# Altium footprint library semtech.PcbLib: 62 footprints (part 4 of 4)
Each footprint in its own frame and in the unit in brackets; x right, y up, seen from the top. Pads: shape width x height; smd on the part's side, far side on the other; paste and mask are expansions set on the pad; w line width, h text height; cw(c..) or ccw(c..) is an arc to the next point about the centre after c.
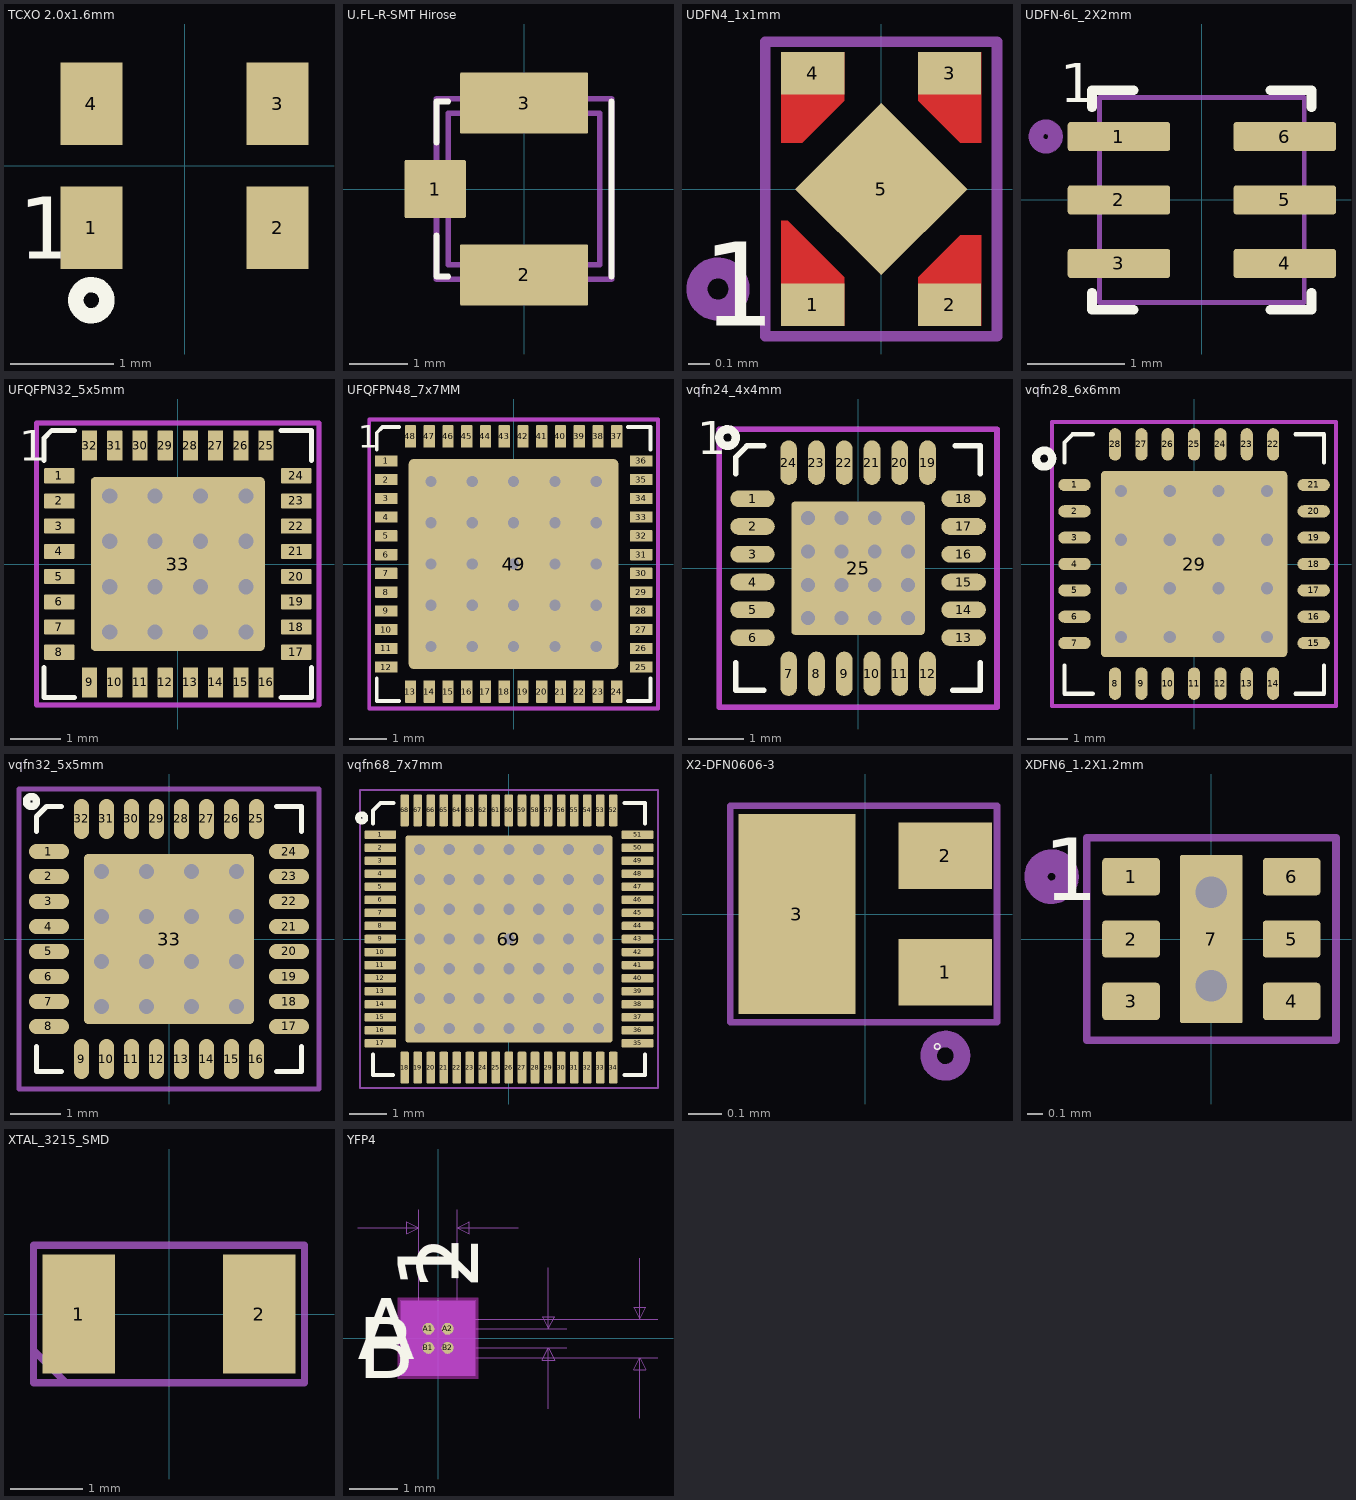
[diagram p3: the footprints below, top view; thin cyan lines are the x and y axes]

## TCXO 2.0x1.6mm [mm] "SMD 2.0x1.6mm for TCXO or VCTCXO"
height 1
pads (4):
  rect 0.6x0.8 smd mask+0.05: 1(-0.9,-0.6) 2(0.9,-0.6) 3(0.9,0.6) 4(-0.9,0.6)
Top Overlay:
  circle w0.15: c-0.9,-1.3 r0.15
  text "1" at -1.6,-0.9 h0.6
3D body: height 1, standoff 0, extent -1,-0.8 1,0.8

## U.FL-R-SMT Hirose [mm] "Hirose U.FL RF receptacle - U.FL-R-SMT"
height 1.2
pads (3):
  rrect5% 1.05x1 smd mask+0.05: 1(-1.525,0)
  rrect5% 2.2x1.05 smd mask+0.05: 2(0,-1.475) 3(0,1.475)
Top Overlay:
  lines w0.1: -1.5,-0.8 -1.5,-1.5 -1.3,-1.5 ; -1.5,0.8 -1.5,1.5 -1.3,1.5 ; 1.5,-1.5 1.5,1.5
Mechanical 13:
  lines w0.1: -1.5,-1.55 1.5,-1.55 1.5,1.55 -1.5,1.55 -1.5,-1.55
Mechanical 15:
  lines w0.1: -1.3,-1.3 1.3,-1.3 1.3,1.3 -1.3,1.3 -1.3,-1.3
3D body: height 1.3, standoff 0.05, extent -1.5,-1.5 1.5,1.5

## UDFN4_1x1mm [mm] "UDFN4_1x1mm"
height 0.6
pads (5):
  rect 0.3x0.2 smd paste-0.025 mask+0.025: 1(-0.325,-0.55) 2(0.325,-0.55) 3(0.325,0.55) 4(-0.325,0.55)
  rect 0.58x0.58 smd rot 45 paste-0.025 mask+0.025: 5(0,0)
Top Layer:
  region: 0.175,0.65 0.175,0.42 0.375,0.22 0.475,0.22 0.475,0.65
  region: -0.175,-0.65 -0.175,-0.42 -0.445,-0.15 -0.475,-0.15 -0.475,-0.65
  region: -0.175,0.65 -0.175,0.42 -0.375,0.22 -0.475,0.22 -0.475,0.65
  region: 0.175,-0.65 0.175,-0.42 0.375,-0.22 0.475,-0.22 0.475,-0.65
Top Overlay:
  text "1" at -0.85,-0.65 h0.4
Top Paste:
  region: -0.45,0.625 -0.45,0.25 -0.375,0.25 -0.2,0.425 -0.2,0.625
  region: 0.45,0.625 0.45,0.25 0.375,0.25 0.2,0.425 0.2,0.625
  region: 0.2,-0.625 0.2,-0.425 0.375,-0.25 0.45,-0.25 0.45,-0.625
  region: -0.2,-0.625 -0.2,-0.425 -0.425,-0.2 -0.45,-0.2 -0.45,-0.625
Top Solder:
  region: -0.5,0.675 -0.5,0.2 -0.375,0.2 -0.15,0.425 -0.15,0.675
  region: 0.5,-0.675 0.5,-0.2 0.375,-0.2 0.15,-0.425 0.15,-0.675
  region: -0.5,-0.675 -0.5,-0.125 -0.45,-0.125 -0.15,-0.425 -0.15,-0.675
  region: 0.5,0.675 0.5,0.2 0.375,0.2 0.15,0.425 0.15,0.675
Mechanical 15:
  circle w0.1: c-0.775,-0.475 r0.1
  lines w0.05: -0.55,-0.7 0.55,-0.7 0.55,0.7 -0.55,0.7 -0.55,-0.7
3D body: height 0.6, standoff 0, extent -0.5,-0.5 0.5,0.5

## UDFN-6L_2X2mm [mm] "6 Leads, Body 2x2mm, pitch 0.65mm, UDFN-6L"
height 0.8
pads (6):
  rrect20% 1.05x0.3 smd paste+0 mask+0.05: 1(-0.85,0.65) 2(-0.85,0) 3(-0.85,-0.65) 4(0.85,-0.65) 5(0.85,0) 6(0.85,0.65)
Top Overlay:
  lines w0.1: -1.125,-0.95 -1.125,-1.125 -0.7,-1.125 ; -1.125,0.95 -1.125,1.125 -0.7,1.125 ; 0.7,-1.125 1.125,-1.125 1.125,-0.95 ; 0.7,1.125 1.125,1.125 1.125,0.95
  text "1" at -1.45,1 h0.4
Mechanical 15:
  circle w0.15: c-1.6,0.65 r0.1
  lines w0.05: -1.05,-1.05 -1.05,1.05 1.05,1.05 1.05,-1.05 -1.05,-1.05
3D body: height 0.55, standoff 0.05, extent -1,-1 1,1

## UFQFPN32_5x5mm [mm] "UFQFPN32 Leads, Body 5.0x5.0mm, Pitch 0.50mm"
height 0.6
pads (33):
  rrect10% 0.6x0.3 smd mask+0.05: 1(-2.35,1.75) 2(-2.35,1.25) 3(-2.35,0.75) 4(-2.35,0.25) 5(-2.35,-0.25) 6(-2.35,-0.75) 7(-2.35,-1.25) 8(-2.35,-1.75) 17(2.35,-1.75) 18(2.35,-1.25) 19(2.35,-0.75) 20(2.35,-0.25) 21(2.35,0.25) 22(2.35,0.75) 23(2.35,1.25) 24(2.35,1.75)
  rrect10% 0.3x0.6 smd mask+0.05: 9(-1.75,-2.35) 10(-1.25,-2.35) 11(-0.75,-2.35) 12(-0.25,-2.35) 13(0.25,-2.35) 14(0.75,-2.35) 15(1.25,-2.35) 16(1.75,-2.35) 25(1.75,2.35) 26(1.25,2.35) 27(0.75,2.35) 28(0.25,2.35) 29(-0.25,2.35) 30(-0.75,2.35) 31(-1.25,2.35) 32(-1.75,2.35)
  rrect5% 3.45x3.45 smd paste-5 mask+0.05: 33(0,0)
via 1.35,1.35 diameter 0.6 hole 0.3
via -1.35,1.35 diameter 0.6 hole 0.3
via -0.45,1.35 diameter 0.6 hole 0.3
via 0.45,1.35 diameter 0.6 hole 0.3
via 1.35,0.45 diameter 0.6 hole 0.3
via -1.35,0.45 diameter 0.6 hole 0.3
via -0.45,0.45 diameter 0.6 hole 0.3
via 0.45,0.45 diameter 0.6 hole 0.3
via 1.35,-0.45 diameter 0.6 hole 0.3
via -1.35,-0.45 diameter 0.6 hole 0.3
via -0.45,-0.45 diameter 0.6 hole 0.3
via 0.45,-0.45 diameter 0.6 hole 0.3
via 0.45,-1.35 diameter 0.6 hole 0.3
via -0.45,-1.35 diameter 0.6 hole 0.3
via -1.35,-1.35 diameter 0.6 hole 0.3
via 1.35,-1.35 diameter 0.6 hole 0.3
Top Overlay:
  lines w0.1: -2.65,-2.05 -2.65,-2.65 -2.05,-2.65 ; -2.65,2.05 -2.65,2.5 -2.5,2.65 -2.05,2.65 ; 2.05,-2.65 2.65,-2.65 2.65,-2.05 ; 2.05,2.65 2.65,2.65 2.65,2.05
  text "1" at -3.15,2.05 h0.6
Top Paste:
  region: -0.1,-0.1 -0.1,-1.6 -1.6,-1.6 -1.6,-0.1
  region: 1.6,-0.1 1.6,-1.6 0.1,-1.6 0.1,-0.1
  region: 1.6,1.6 1.6,0.1 0.1,0.1 0.1,1.6
  region: -0.1,1.6 -0.1,0.1 -1.6,0.1 -1.6,1.6
Mechanical 15 keep-out:
  lines w0.1: -2.8,-2.8 2.8,-2.8 2.8,2.8 -2.8,2.8 -2.8,-2.8
3D body: height 1, standoff 0.05, extent -2.5,-2.5 2.5,2.5

## UFQFPN48_7x7MM [mm] "UFQFPN48 Leads, Body 7.0x7.0mm, Pitch 0.50mm"
height 1
pads (49):
  rrect10% 0.6x0.3 smd mask+0.05: 1(-3.4,2.75) 2(-3.4,2.25) 3(-3.4,1.75) 4(-3.4,1.25) 5(-3.4,0.75) 6(-3.4,0.25) 7(-3.4,-0.25) 8(-3.4,-0.75) 9(-3.4,-1.25) 10(-3.4,-1.75) 11(-3.4,-2.25) 12(-3.4,-2.75) 25(3.4,-2.75) 26(3.4,-2.25) 27(3.4,-1.75) 28(3.4,-1.25) 29(3.4,-0.75) 30(3.4,-0.25) 31(3.4,0.25) 32(3.4,0.75) 33(3.4,1.25) 34(3.4,1.75) 35(3.4,2.25) 36(3.4,2.75)
  rrect10% 0.3x0.6 smd mask+0.05: 13(-2.75,-3.4) 14(-2.25,-3.4) 15(-1.75,-3.4) 16(-1.25,-3.4) 17(-0.75,-3.4) 18(-0.25,-3.4) 19(0.25,-3.4) 20(0.75,-3.4) 21(1.25,-3.4) 22(1.75,-3.4) 23(2.25,-3.4) 24(2.75,-3.4) 37(2.75,3.4) 38(2.25,3.4) 39(1.75,3.4) 40(1.25,3.4) 41(0.75,3.4) 42(0.25,3.4) 43(-0.25,3.4) 44(-0.75,3.4) 45(-1.25,3.4) 46(-1.75,3.4) 47(-2.25,3.4) 48(-2.75,3.4)
  rrect5% 5.6x5.6 smd paste-5.2 mask+0.05: 49(0,0)
via 0,0 diameter 0.6 hole 0.3
via 0,-1.1 diameter 0.6 hole 0.3
via -2.2,2.2 diameter 0.6 hole 0.3
via -2.2,-2.2 diameter 0.6 hole 0.3
via -2.2,1.1 diameter 0.6 hole 0.3
via -2.2,0 diameter 0.6 hole 0.3
via -2.2,-1.1 diameter 0.6 hole 0.3
via -1.1,-2.2 diameter 0.6 hole 0.3
via -1.1,-1.1 diameter 0.6 hole 0.3
via -1.1,0 diameter 0.6 hole 0.3
via -1.1,1.1 diameter 0.6 hole 0.3
via -1.1,2.2 diameter 0.6 hole 0.3
via 0,-2.2 diameter 0.6 hole 0.3
via 0,1.1 diameter 0.6 hole 0.3
via 0,2.2 diameter 0.6 hole 0.3
via 1.1,-2.2 diameter 0.6 hole 0.3
via 1.1,-1.1 diameter 0.6 hole 0.3
via 1.1,0 diameter 0.6 hole 0.3
via 1.1,1.1 diameter 0.6 hole 0.3
via 1.1,2.2 diameter 0.6 hole 0.3
via 2.2,2.2 diameter 0.6 hole 0.3
via 2.2,1.1 diameter 0.6 hole 0.3
via 2.2,0 diameter 0.6 hole 0.3
via 2.2,-1.1 diameter 0.6 hole 0.3
via 2.2,-2.2 diameter 0.6 hole 0.3
Top Overlay:
  lines w0.1: -3.65,-3.05 -3.65,-3.65 -3.05,-3.65 ; -3.65,3.05 -3.65,3.5 -3.5,3.65 -3.05,3.65 ; 3.05,-3.65 3.65,-3.65 3.65,-3.05 ; 3.05,3.65 3.65,3.65 3.65,3.05
  text "1" at -4.15,3.1 h0.6
Top Paste:
  region: 0.2,-0.2 2,-0.2 2,-2 0.2,-2
  region: -0.2,-0.2 -0.2,-2 -2,-2 -2,-0.2
  region: -0.2,0.2 -0.2,2 -2,2 -2,0.2
  region: 0.2,0.2 2,0.2 2,2 0.2,2
Mechanical 15 keep-out:
  lines w0.1: -3.85,-3.85 -3.85,3.85 3.85,3.85 3.85,-3.85 -3.85,-3.85
3D body: height 1, standoff 0.05, extent -3.5,-3.5 3.5,3.5

## vqfn24_4x4mm [mm] "24 Leads, Body 4.0x4.0mm, Pitch 0.50mm, VQFN24"
height 1
pads (25):
  oval 0.8x0.3 smd mask+0.05: 1(-1.9,1.25) 2(-1.9,0.75) 3(-1.9,0.25) 4(-1.9,-0.25) 5(-1.9,-0.75) 6(-1.9,-1.25) 13(1.9,-1.25) 14(1.9,-0.75) 15(1.9,-0.25) 16(1.9,0.25) 17(1.9,0.75) 18(1.9,1.25)
  oval 0.3x0.8 smd mask+0.05: 7(-1.25,-1.9) 8(-0.75,-1.9) 9(-0.25,-1.9) 10(0.25,-1.9) 11(0.75,-1.9) 12(1.25,-1.9) 19(1.25,1.9) 20(0.75,1.9) 21(0.25,1.9) 22(-0.25,1.9) 23(-0.75,1.9) 24(-1.25,1.9)
  rrect5% 2.4x2.4 smd paste-2.5 mask+0.05: 25(0,0)
via -0.3,0.3 diameter 0.5 hole 0.25
via -0.9,-0.9 diameter 0.5 hole 0.25
via -0.9,0.3 diameter 0.5 hole 0.25
via -0.9,-0.3 diameter 0.5 hole 0.25
via -0.9,0.9 diameter 0.5 hole 0.25
via -0.3,-0.3 diameter 0.5 hole 0.25
via -0.3,0.9 diameter 0.5 hole 0.25
via -0.3,-0.9 diameter 0.5 hole 0.25
via 0.3,0.9 diameter 0.5 hole 0.25
via 0.3,0.3 diameter 0.5 hole 0.25
via 0.9,0.9 diameter 0.5 hole 0.25
via 0.9,0.3 diameter 0.5 hole 0.25
via 0.9,-0.3 diameter 0.5 hole 0.25
via 0.9,-0.9 diameter 0.5 hole 0.25
via 0.3,-0.9 diameter 0.5 hole 0.25
via 0.3,-0.3 diameter 0.5 hole 0.25
Top Overlay:
  circle w0.15: c-2.35,2.35 r0.15
  lines w0.1: -2.2,-1.7 -2.2,-2.2 -1.7,-2.2 ; -2.2,1.7 -2.2,2 -2,2.2 -1.7,2.2 ; 1.7,-2.2 2.2,-2.2 2.2,-1.7 ; 1.75,2.2 2.2,2.2 2.2,1.7
  text "1" at -2.9,2.05 h0.6
Top Paste:
  region: -1.15,-1.15 -0.05,-1.15 -0.05,-0.05 -1.15,-0.05
  region: -1.15,0.05 -0.05,0.05 -0.05,1.15 -1.15,1.15
  region: 0.05,0.05 1.15,0.05 1.15,1.15 0.05,1.15
  region: 0.05,-1.15 1.15,-1.15 1.15,-0.05 0.05,-0.05
Mechanical 15 keep-out:
  lines w0.1: -2.5,-2.5 2.5,-2.5 2.5,2.5 -2.5,2.5 -2.5,-2.5
3D body: height 1, standoff 0.05, extent -2,-2 2,2

## vqfn28_6x6mm [mm] "28 Leads, Body 6.0x6.0mm, Pitch 0.65mm, VQFN28"
height 1
pads (29):
  oval 0.8x0.3 smd mask+0.05: 1(-2.95,1.95) 2(-2.95,1.3) 3(-2.95,0.65) 4(-2.95,0) 5(-2.95,-0.65) 6(-2.95,-1.3) 7(-2.95,-1.95) 15(2.95,-1.95) 16(2.95,-1.3) 17(2.95,-0.65) 18(2.95,0) 19(2.95,0.65) 20(2.95,1.3) 21(2.95,1.95)
  oval 0.3x0.8 smd mask+0.05: 8(-1.95,-2.95) 9(-1.3,-2.95) 10(-0.65,-2.95) 11(0,-2.95) 12(0.65,-2.95) 13(1.3,-2.95) 14(1.95,-2.95) 22(1.95,2.95) 23(1.3,2.95) 24(0.65,2.95) 25(0,2.95) 26(-0.65,2.95) 27(-1.3,2.95) 28(-1.95,2.95)
  rrect5% 4.6x4.6 smd paste-3.3 mask+0.05: 29(0,0)
via 1.8,0.6 diameter 0.6 hole 0.3
via 1.8,1.8 diameter 0.6 hole 0.3
via 0.6,1.8 diameter 0.6 hole 0.3
via 0.6,0.6 diameter 0.6 hole 0.3
via -0.6,-0.6 diameter 0.6 hole 0.3
via -0.6,0.6 diameter 0.6 hole 0.3
via -0.6,1.8 diameter 0.6 hole 0.3
via -1.8,-1.8 diameter 0.6 hole 0.3
via -0.6,-1.8 diameter 0.6 hole 0.3
via 1.8,-1.8 diameter 0.6 hole 0.3
via 0.6,-0.6 diameter 0.6 hole 0.3
via -1.8,0.6 diameter 0.6 hole 0.3
via -1.8,-0.6 diameter 0.6 hole 0.3
via -1.8,1.8 diameter 0.6 hole 0.3
via 1.8,-0.6 diameter 0.6 hole 0.3
via 0.6,-1.8 diameter 0.6 hole 0.3
Top Overlay:
  circle w0.2: c-3.7,2.6 r0.2
  lines w0.1: -3.2,-2.5 -3.2,-3.2 -2.5,-3.2 ; -3.2,2.5 -3.2,3 -3,3.2 -2.5,3.2 ; 2.5,-3.2 3.2,-3.2 3.2,-2.5 ; 2.5,3.2 3.2,3.2 3.2,2.5
Top Paste:
  region: -1.75,-0.75 -1.75,-1.75 -0.75,-1.75 -0.75,-0.75
  region: -0.55,-0.75 -0.55,-1.75 0.45,-1.75 0.45,-0.75
  region: 0.75,-0.75 0.75,-1.75 1.75,-1.75 1.75,-0.75
  region: -1.75,0.5 -1.75,-0.5 -0.75,-0.5 -0.75,0.5
  region: -0.5,0.5 -0.5,-0.5 0.5,-0.5 0.5,0.5
  region: 0.75,0.5 0.75,-0.5 1.75,-0.5 1.75,0.5
  region: -1.75,1.75 -1.75,0.75 -0.75,0.75 -0.75,1.75
  region: -0.5,1.75 -0.5,0.75 0.5,0.75 0.5,1.75
  region: 0.75,1.75 0.75,0.75 1.75,0.75 1.75,1.75
Mechanical 15 keep-out:
  lines w0.1: -3.5,-3.5 3.5,-3.5 3.5,3.5 -3.5,3.5 -3.5,-3.5
3D body: height 1, standoff 0.05, extent -3,-3 3,3

## vqfn32_5x5mm [mm] "32 Leads, Body 5.0x5.0mm, Pitch 0.50mm, VQFN32"
height 1
pads (33):
  oval 0.8x0.3 smd mask+0.05: 1(-2.4,1.75) 2(-2.4,1.25) 3(-2.4,0.75) 4(-2.4,0.25) 5(-2.4,-0.25) 6(-2.4,-0.75) 7(-2.4,-1.25) 8(-2.4,-1.75) 17(2.4,-1.75) 18(2.4,-1.25) 19(2.4,-0.75) 20(2.4,-0.25) 21(2.4,0.25) 22(2.4,0.75) 23(2.4,1.25) 24(2.4,1.75)
  oval 0.3x0.8 smd mask+0.05: 9(-1.75,-2.4) 10(-1.25,-2.4) 11(-0.75,-2.4) 12(-0.25,-2.4) 13(0.25,-2.4) 14(0.75,-2.4) 15(1.25,-2.4) 16(1.75,-2.4) 25(1.75,2.4) 26(1.25,2.4) 27(0.75,2.4) 28(0.25,2.4) 29(-0.25,2.4) 30(-0.75,2.4) 31(-1.25,2.4) 32(-1.75,2.4)
  rrect5% 3.4x3.4 smd paste-3.2 mask+0.05: 33(0,0)
via -0.45,-1.35 diameter 0.6 hole 0.3
via 0.45,-1.35 diameter 0.6 hole 0.3
via -1.35,-1.35 diameter 0.6 hole 0.3
via 1.35,-1.35 diameter 0.6 hole 0.3
via 1.35,-0.45 diameter 0.6 hole 0.3
via -1.35,-0.45 diameter 0.6 hole 0.3
via 0.45,-0.45 diameter 0.6 hole 0.3
via -0.45,-0.45 diameter 0.6 hole 0.3
via 1.35,0.45 diameter 0.6 hole 0.3
via -1.35,0.45 diameter 0.6 hole 0.3
via 0.45,0.45 diameter 0.6 hole 0.3
via -0.45,0.45 diameter 0.6 hole 0.3
via 1.35,1.35 diameter 0.6 hole 0.3
via -1.35,1.35 diameter 0.6 hole 0.3
via 0.45,1.35 diameter 0.6 hole 0.3
via -0.45,1.35 diameter 0.6 hole 0.3
Top Overlay:
  circle w0.15: c-2.75,2.75 r0.1
  lines w0.1: -2.65,-2.15 -2.65,-2.65 -2.15,-2.65 ; -2.65,2.15 -2.65,2.45 -2.45,2.65 -2.15,2.65 ; 2.15,-2.65 2.65,-2.65 2.65,-2.15 ; 2.15,2.65 2.65,2.65 2.65,2.15
Top Paste:
  region: 0.1,1.55 1.55,1.55 1.55,0.1 0.1,0.1
  region: 0.1,-0.1 1.55,-0.1 1.55,-1.55 0.1,-1.55
  region: -0.1,-0.1 -0.1,-1.55 -1.55,-1.55 -1.55,-0.1
  region: -1.55,1.55 -1.55,0.1 -0.1,0.1 -0.1,1.55
Mechanical 15:
  lines w0.1: -3,-3 3,-3 3,3 -3,3 -3,-3
3D body: height 1, standoff 0.05, extent -2.5,-2.5 2.5,2.5

## vqfn68_7x7mm [mm] "VQFN68 Leads, Body 7.0x7.0mm, Pitch 0.35mm"
height 0.9
pads (69):
  rrect25% 0.85x0.23 smd paste+0 mask+0.025: 1(-3.45,2.8) 2(-3.45,2.45) 3(-3.45,2.1) 4(-3.45,1.75) 5(-3.45,1.4) 6(-3.45,1.05) 7(-3.45,0.7) 8(-3.45,0.35) 9(-3.45,0) 10(-3.45,-0.35) 11(-3.45,-0.7) 12(-3.45,-1.05) 13(-3.45,-1.4) 14(-3.45,-1.75) 15(-3.45,-2.1) 16(-3.45,-2.45) 17(-3.45,-2.8) 35(3.45,-2.8) 36(3.45,-2.45) 37(3.45,-2.1) 38(3.45,-1.75) 39(3.45,-1.4) 40(3.45,-1.05) 41(3.45,-0.7) 42(3.45,-0.35) 43(3.45,0) 44(3.45,0.35) 45(3.45,0.7) 46(3.45,1.05) 47(3.45,1.4) 48(3.45,1.75) 49(3.45,2.1) 50(3.45,2.45) 51(3.45,2.8)
  rrect25% 0.23x0.85 smd paste+0 mask+0.025: 18(-2.8,-3.45) 19(-2.45,-3.45) 20(-2.1,-3.45) 21(-1.75,-3.45) 22(-1.4,-3.45) 23(-1.05,-3.45) 24(-0.7,-3.45) 25(-0.35,-3.45) 26(0,-3.45) 27(0.35,-3.45) 28(0.7,-3.45) 29(1.05,-3.45) 30(1.4,-3.45) 31(1.75,-3.45) 32(2.1,-3.45) 33(2.45,-3.45) 34(2.8,-3.45) 52(2.8,3.45) 53(2.45,3.45) 54(2.1,3.45) 55(1.75,3.45) 56(1.4,3.45) 57(1.05,3.45) 58(0.7,3.45) 59(0.35,3.45) 60(0,3.45) 61(-0.35,3.45) 62(-0.7,3.45) 63(-1.05,3.45) 64(-1.4,3.45) 65(-1.75,3.45) 66(-2.1,3.45) 67(-2.45,3.45) 68(-2.8,3.45)
  rrect2% 5.55x5.55 smd paste-6.6 mask+0.025: 69(0,0)
via 0,0 diameter 0.6 hole 0.3
via -0.8,0 diameter 0.6 hole 0.3
via -1.6,0 diameter 0.6 hole 0.3
via -2.4,0 diameter 0.6 hole 0.3
via 0.8,0 diameter 0.6 hole 0.3
via 1.6,0 diameter 0.6 hole 0.3
via 2.4,0 diameter 0.6 hole 0.3
via 2.4,-0.8 diameter 0.6 hole 0.3
via 1.6,-0.8 diameter 0.6 hole 0.3
via 0.8,-0.8 diameter 0.6 hole 0.3
via -2.4,-0.8 diameter 0.6 hole 0.3
via -1.6,-0.8 diameter 0.6 hole 0.3
via -0.8,-0.8 diameter 0.6 hole 0.3
via 0,-0.8 diameter 0.6 hole 0.3
via 2.4,-1.6 diameter 0.6 hole 0.3
via 1.6,-1.6 diameter 0.6 hole 0.3
via 0.8,-1.6 diameter 0.6 hole 0.3
via -2.4,-1.6 diameter 0.6 hole 0.3
via -1.6,-1.6 diameter 0.6 hole 0.3
via -0.8,-1.6 diameter 0.6 hole 0.3
via 0,-1.6 diameter 0.6 hole 0.3
via 2.4,-2.4 diameter 0.6 hole 0.3
via 1.6,-2.4 diameter 0.6 hole 0.3
via 0.8,-2.4 diameter 0.6 hole 0.3
via -2.4,-2.4 diameter 0.6 hole 0.3
via -1.6,-2.4 diameter 0.6 hole 0.3
via -0.8,-2.4 diameter 0.6 hole 0.3
via 0,-2.4 diameter 0.6 hole 0.3
via 2.4,0.8 diameter 0.6 hole 0.3
via 1.6,0.8 diameter 0.6 hole 0.3
via 0.8,0.8 diameter 0.6 hole 0.3
via -2.4,0.8 diameter 0.6 hole 0.3
via -1.6,0.8 diameter 0.6 hole 0.3
via -0.8,0.8 diameter 0.6 hole 0.3
via 0,0.8 diameter 0.6 hole 0.3
via 2.4,1.6 diameter 0.6 hole 0.3
via 1.6,1.6 diameter 0.6 hole 0.3
via 0.8,1.6 diameter 0.6 hole 0.3
via -2.4,1.6 diameter 0.6 hole 0.3
via -1.6,1.6 diameter 0.6 hole 0.3
via -0.8,1.6 diameter 0.6 hole 0.3
via 0,1.6 diameter 0.6 hole 0.3
via 2.4,2.4 diameter 0.6 hole 0.3
via 1.6,2.4 diameter 0.6 hole 0.3
via 0.8,2.4 diameter 0.6 hole 0.3
via -2.4,2.4 diameter 0.6 hole 0.3
via -1.6,2.4 diameter 0.6 hole 0.3
via -0.8,2.4 diameter 0.6 hole 0.3
via 0,2.4 diameter 0.6 hole 0.3
Top Overlay:
  circle w0.15: c-3.95,3.25 r0.1
  lines w0.1: -3.65,-3.1 -3.65,-3.65 -3.11,-3.65 ; -3.65,3.1 -3.65,3.45 -3.45,3.65 -3.1,3.65 ; 3.1,-3.65 3.65,-3.65 3.65,-3.1 ; 3.1,3.65 3.65,3.65 3.65,3.1
Top Paste:
  region: -2.5,-1.4 -2.5,-2.5 -1.4,-2.5 -1.4,-1.4
  region: -2.5,-0.1 -2.5,-1.2 -1.4,-1.2 -1.4,-0.1
  region: -2.5,1.2 -2.5,0.1 -1.4,0.1 -1.4,1.2
  region: -2.5,2.5 -2.5,1.4 -1.4,1.4 -1.4,2.5
  region: 1.4,2.5 1.4,1.4 2.5,1.4 2.5,2.5
  region: 1.4,1.2 1.4,0.1 2.5,0.1 2.5,1.2
  region: 1.4,-0.1 1.4,-1.2 2.5,-1.2 2.5,-0.1
  region: 1.4,-1.4 1.4,-2.5 2.5,-2.5 2.5,-1.4
  region: 0.1,2.5 0.1,1.4 1.2,1.4 1.2,2.5
  region: 0.1,1.2 0.1,0.1 1.2,0.1 1.2,1.2
  region: 0.1,-0.1 0.1,-1.2 1.2,-1.2 1.2,-0.1
  region: 0.1,-1.4 0.1,-2.5 1.2,-2.5 1.2,-1.4
  region: -1.2,2.5 -1.2,1.4 -0.1,1.4 -0.1,2.5
  region: -1.2,1.2 -1.2,0.1 -0.1,0.1 -0.1,1.2
  region: -1.2,-0.1 -1.2,-1.2 -0.1,-1.2 -0.1,-0.1
  region: -1.2,-1.4 -1.2,-2.5 -0.1,-2.5 -0.1,-1.4
Top Solder:
  region: 2.94,3 2.94,3.9 -2.94,3.9 -2.94,3
  region: 2.94,-3.9 2.94,-3 -2.94,-3 -2.94,-3.9
  region: 3,-2.94 3.9,-2.94 3.9,2.94 3,2.94
  region: -3.9,-2.94 -3,-2.94 -3,2.94 -3.9,2.94
Mechanical 15:
  lines w0.05: -4,-4 4,-4 4,4 -4,4 -4,-4
3D body: height 0.9, standoff 0.05, extent -3.5,-3.5 3.5,3.5

## X2-DFN0606-3 [mm] "X2-DFN0606-3 , 3-Leads, Body 1.0x0.6mm"
height 0.4
pads (3):
  rect 0.28x0.2 smd paste+0 mask+0.025: 1(0.24,-0.175) 2(0.24,0.175)
  rect 0.35x0.6 smd paste+0 mask+0.025: 3(-0.205,0)
Top Overlay:
  text "°" at 0.2,-0.44 h0.05
Mechanical 15:
  circle w0.05: c0.24,-0.425 r0.05
  lines w0.02: -0.405,-0.325 0.395,-0.325 0.395,0.325 -0.405,0.325 -0.405,-0.325
3D body: height 0.4, standoff 0.05, extent -0.31,-0.31 0.31,0.31

## XDFN6_1.2X1.2mm [mm] "6 Leads, Body 1.2x1.2mm, pitch 0.40mm, XDFN6"
height 0.5
pads (7):
  rrect20% 0.37x0.24 smd paste+0 mask+0.05: 1(-0.515,0.4) 2(-0.515,0) 3(-0.515,-0.4) 4(0.515,-0.4) 5(0.515,0) 6(0.515,0.4)
  rrect5% 0.4x1.08 smd paste-0.025 mask+0.05: 7(0,0)
via 0,-0.3 diameter 0.4 hole 0.2
via 0,0.3 diameter 0.4 hole 0.2
Top Overlay:
  text "1" at -1.075,0.25 h0.4
Mechanical 15:
  circle w0.15: c-1.025,0.4 r0.1
  lines w0.05: -0.8,-0.65 -0.8,0.65 0.8,0.65 0.8,-0.65 -0.8,-0.65
3D body: height 0.45, standoff 0, extent -0.6,-0.6 0.6,0.6

## XTAL_3215_SMD [mm] "XTAL SMD; Body 3.2x1.5 mm (LxW max)"
height 0.9
pads (2):
  rect 1x1.65 smd paste+0 mask+0.05: 1(-1.25,0) 2(1.25,0)
Mechanical 15:
  lines w0.1: -1.875,-0.5 -1.425,-0.95 ; -1.875,-0.95 1.875,-0.95 1.875,0.95 -1.875,0.95 -1.875,-0.95
3D body: height 0.9, standoff 0.05, extent -1.6,-0.75 1.6,0.75

## YFP4 [mm]
pads (4):
  round 0.25 smd: A1(-0.2,0.2) A2(0.2,0.2) B1(-0.2,-0.2) B2(0.2,-0.2)
Top Overlay:
  text "A" at -1.67,-0.435 h1.27
  text "B" at -1.67,-0.835 h1.27
  text "1" at 0.435,1.035 h1.27
  text "2" at 0.835,1.035 h1.27
Bottom Overlay:
  text "A" at -1.035,-0.435 h1.27
  text "B" at -1.035,-0.835 h1.27
  text "1" at -0.835,1.035 h1.27
  text "2" at -0.435,1.035 h1.27
Keep-Out Layer:
  region: -0.844,-0.844 -0.844,0.844 0.844,0.844 0.844,-0.844
Mechanical 5:
  region: 0.781,-0.781 -0.781,-0.781 -0.781,0.781 0.781,0.781
Mechanical 7:
  lines w0.025: -1.67,2.305 -0.4,2.305 ; -0.4,0 -0.4,2.686 ; 0,-0.4 4.591,-0.4 ; 0,0.4 4.591,0.4 ; 0.2,-0.2 2.686,-0.2 ; 0.2,0.2 2.686,0.2 ; 0.4,0 0.4,2.686 ; 1.67,2.305 0.4,2.305 ; 2.305,-1.47 2.305,-0.2 ; 2.305,1.47 2.305,0.2 ; 4.21,-1.67 4.21,-0.4 ; 4.21,1.67 4.21,0.4 ; -0.4,2.305 -0.654,2.432 -0.654,2.178 -0.4,2.305 ; 0.4,2.305 0.654,2.432 0.654,2.178 0.4,2.305 ; 2.305,-0.2 2.178,-0.454 2.432,-0.454 2.305,-0.2 ; 2.305,0.2 2.178,0.454 2.432,0.454 2.305,0.2 ; 4.21,-0.4 4.083,-0.654 4.337,-0.654 4.21,-0.4 ; 4.21,0.4 4.083,0.654 4.337,0.654 4.21,0.4
  text "Default Padstyle: EX9p84Y9p84D0T" at -10.16,-5.48 h1.27
  text "1.574803E-02in/.4mm" at 2.813,-0.318 h0.64
  text "3.149606E-02in/.8mm" at -3.016,2.813 h0.64
  text "3.149606E-02in/.8mm" at 4.718,-0.318 h0.64
Mechanical 13:
  lines w0.025: -0.4,0.2 -0.2,0.4 ; -0.4,-0.4 0.4,-0.4 0.4,0.4 -0.4,0.4 -0.4,-0.4
  text "A" at -1.67,-0.435 h1.27
  text "B" at -1.67,-0.835 h1.27
  text "1" at 0.435,1.035 h1.27
  text "2" at 0.835,1.035 h1.27
Mechanical 15:
  region: 0.654,-0.654 -0.654,-0.654 -0.654,0.654 0.654,0.654
  lines w0.152: -0.654,-0.654 -0.654,0.654 0.654,0.654 0.654,-0.654 -0.654,-0.654
3D body: height 0.25, standoff 0, extent 0,0 0.254,0.254